# EAGLE library part TPS61090 (library insole)
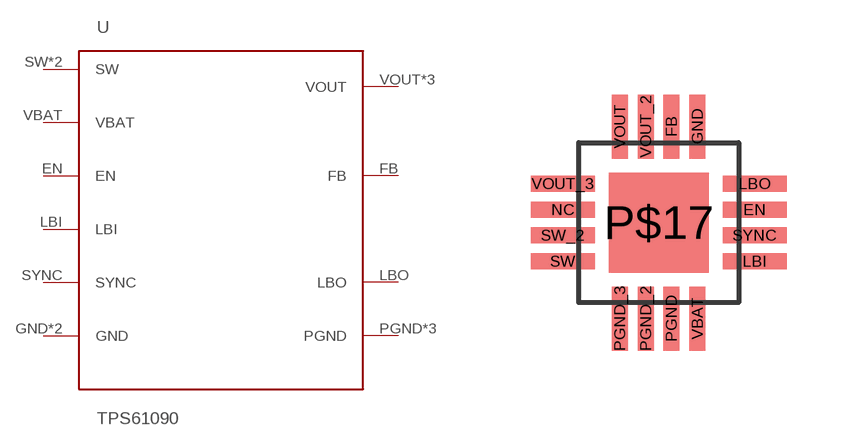
[diagram p1: symbol with the pads of QFN-16; footprint QFN-16]

Designator prefix U

## TPS61090  [QFN-16]
EN  EN
FB  FB
GND  GND
LBI  LBI
LBO  LBO
P$17  GND
PGND  PGND
PGND_2  PGND
PGND_3  PGND
SW  SW
SW_2  SW
SYNC  SYNC
VBAT  VBAT
VOUT  VOUT
VOUT_2  VOUT
VOUT_3  VOUT

## Footprint QFN-16 (pad centres in mm)
smd 1.6 x 0.4: EN 2.4,0.32; LBI 2.4,-0.97; LBO 2.4,0.97; NC -2.4,0.32; SW -2.4,-0.97; SW_2 -2.4,-0.32; SYNC 2.4,-0.32; VOUT_3 -2.4,0.97
smd 0.4 x 1.6: FB 0.32,2.4; GND 0.97,2.4; PGND 0.32,-2.4; PGND_2 -0.32,-2.4; PGND_3 -0.97,-2.4; VBAT 0.97,-2.4; VOUT -0.97,2.4; VOUT_2 -0.32,2.4
smd 2.5 x 2.5: P$17 0,0